# Altium schematic symbol library Schlib.SchLib: 74 symbols
Pins are listed as number, name and electrical type; pins without a type are passive.

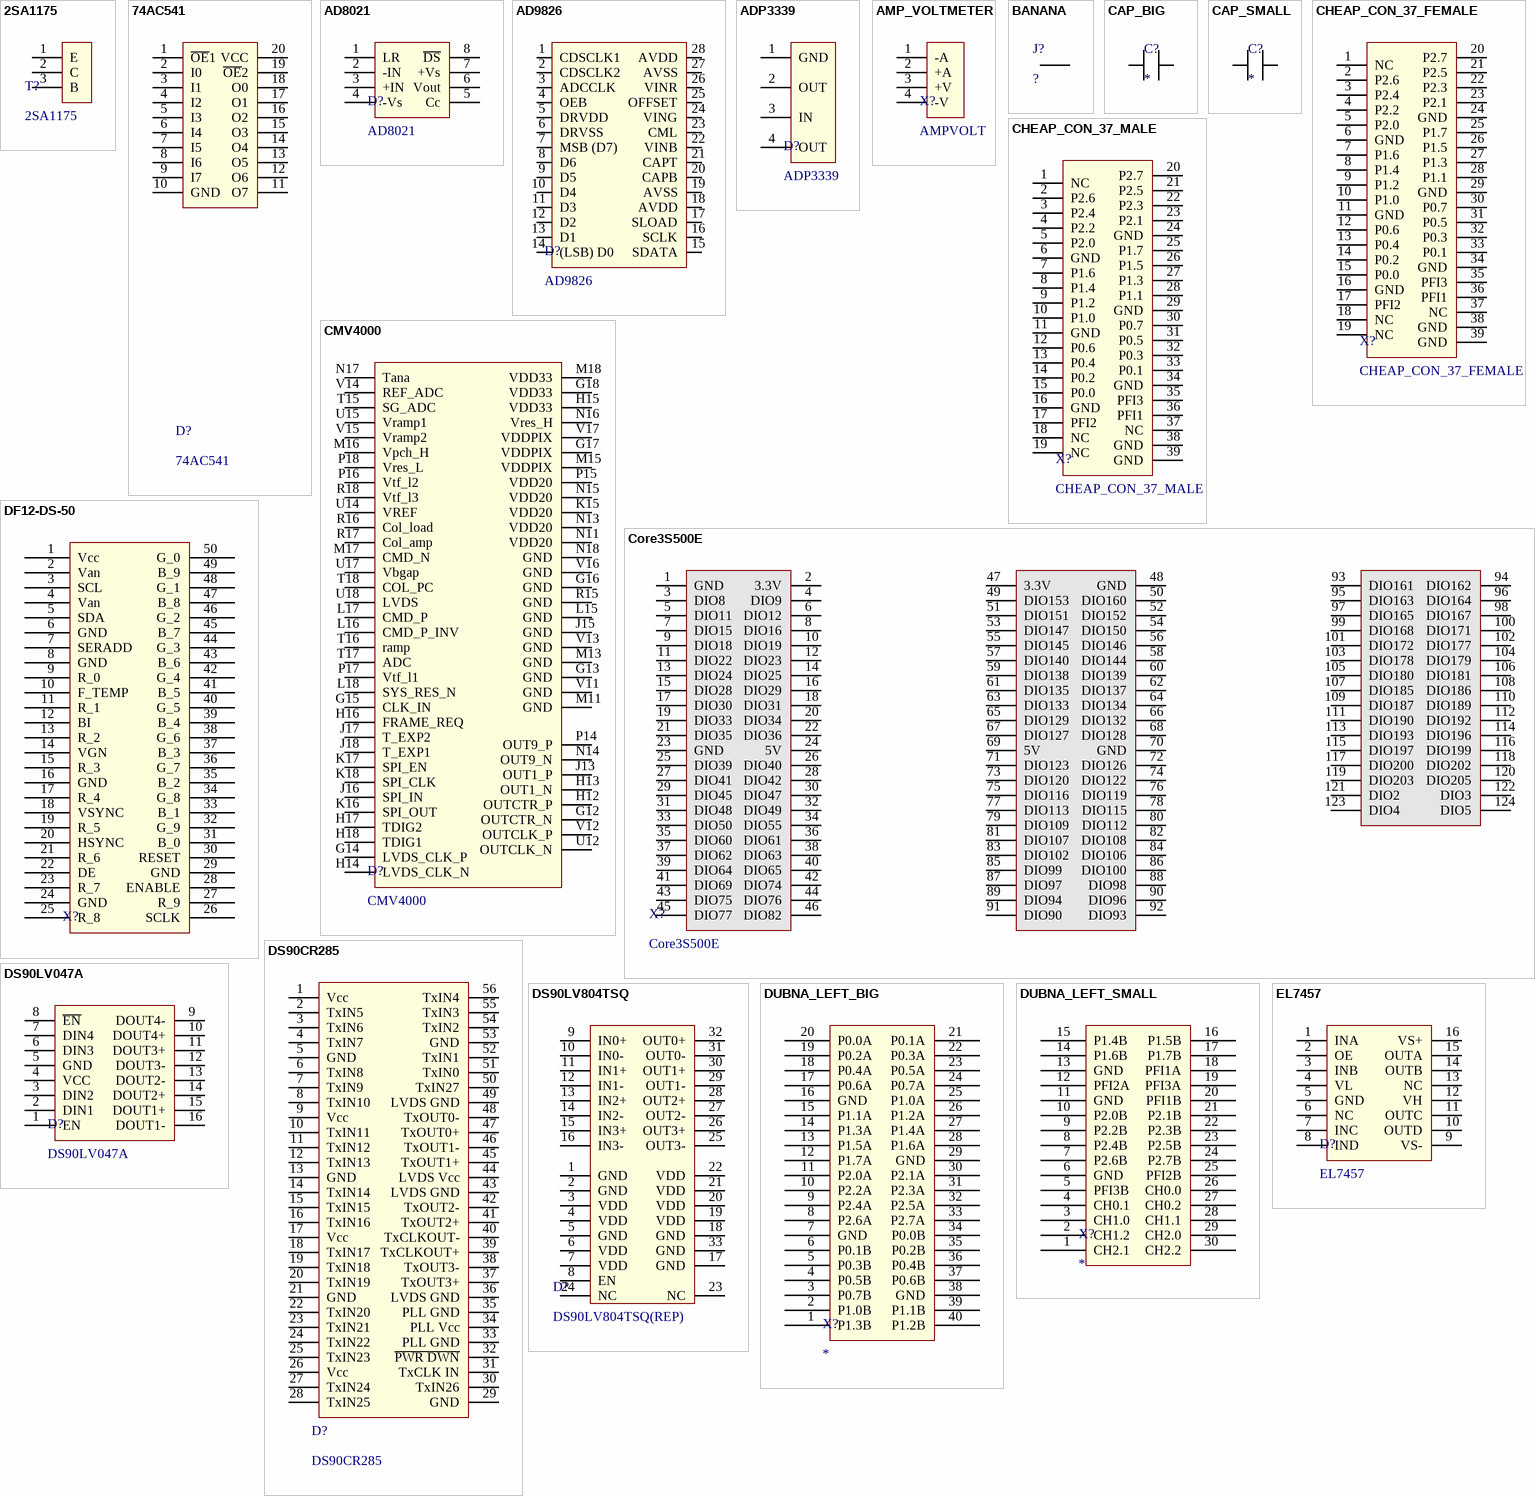
[diagram p0: symbols 2SA1175 to EL7457]

## 2SA1175
designator T?
footprint 2SA1175
pins: 1 E, 2 C, 3 B

## 74AC541
designator D?
footprint 20S_M (20-Pin Small Outline Integrated Circuit 1.27 mm Pitch, IPC Low Density)
pins: 1 ~{OE}1, 2 I0, 3 I1, 4 I2, 5 I3, 6 I4, 7 I5, 8 I6, 9 I7, 10 GND, 11 O7, 12 O6, 13 O5, 14 O4, 15 O3, 16 O2, 17 O1, 18 O0, 19 ~{OE}2, 20 VCC

## AD8021
designator D?
footprint AD8021
pins: 1 LR, 2 -IN, 3 +IN, 4 -Vs, 5 Cc, 6 Vout, 7 +Vs, 8 ~{DS}

## AD9826
designator D?
footprint SSOP-28
pins: 1 CDSCLK1, 2 CDSCLK2, 3 ADCCLK, 4 OEB, 5 DRVDD, 6 DRVSS, 7 MSB (D7), 8 D6, 9 D5, 10 D4, 11 D3, 12 D2, 13 D1, 14 (LSB) D0, 15 SDATA, 16 SCLK, 17 SLOAD, 18 AVDD, 19 AVSS, 20 CAPB, 21 CAPT, 22 VINB, 23 CML, 24 VING, 25 OFFSET, 26 VINR, 27 AVSS, 28 AVDD

## ADP3339
designator D?
footprint SOT230P700X180-4N
pins: 1 GND, 2 OUT, 3 IN, 4 OUT

## AMP_VOLTMETER
designator X?, comment AMPVOLT
footprint AMP_VOLTMETER
pins: 1 -A, 2 +A, 3 +V, 4 -V

## BANANA
designator J?, comment ?
footprint BANANA
pins: 1 BANAN

## CAP_BIG
designator C?
footprint Cap_BIG (FROM_MAX)
pins: 1, 2

## CAP_SMALL
designator C?
footprint CAP_SMALL (FROM_MAX)
pins: 1, 2

## CHEAP_CON_37_FEMALE
designator X?
footprint CHEAP_CONN_FEMALE
pins: 1 NC, 2 P2.6, 3 P2.4, 4 P2.2, 5 P2.0, 6 GND, 7 P1.6, 8 P1.4, 9 P1.2, 10 P1.0, 11 GND, 12 P0.6, 13 P0.4, 14 P0.2, 15 P0.0, 16 GND, 17 PFI2, 18 NC, 19 NC, 20 P2.7, 21 P2.5, 22 P2.3, 23 P2.1, 24 GND, 25 P1.7, 26 P1.5, 27 P1.3, 28 P1.1, 29 GND, 30 P0.7, 31 P0.5, 32 P0.3, 33 P0.1, 34 GND, 35 PFI3, 36 PFI1, 37 NC, 38 GND, 39 GND

## CHEAP_CON_37_MALE
designator X?
footprint CHEAP_CONN_MALE
pins: 1 NC, 2 P2.6, 3 P2.4, 4 P2.2, 5 P2.0, 6 GND, 7 P1.6, 8 P1.4, 9 P1.2, 10 P1.0, 11 GND, 12 P0.6, 13 P0.4, 14 P0.2, 15 P0.0, 16 GND, 17 PFI2, 18 NC, 19 NC, 20 P2.7, 21 P2.5, 22 P2.3, 23 P2.1, 24 GND, 25 P1.7, 26 P1.5, 27 P1.3, 28 P1.1, 29 GND, 30 P0.7, 31 P0.5, 32 P0.3, 33 P0.1, 34 GND, 35 PFI3, 36 PFI1, 37 NC, 38 GND, 39 GND

## CMV4000
designator D?
footprint SOCKET_AM2
pins: G12 OUTCTR_N, G13 GND, G14 LVDS_CLK_P, G15 CLK_IN, G16 GND, G17 VDDPIX, G18 VDD33, H12 OUTCTR_P, H13 OUT1_N, H14 LVDS_CLK_N, H15 VDD33, H16 FRAME_REQ, H17 TDIG2, H18 TDIG1, J13 OUT1_P, J15 GND, J16 SPI_IN, J17 T_EXP2, J18 T_EXP1, K15 VDD20, K16 SPI_OUT, K17 SPI_EN, K18 SPI_CLK, L15 GND, L16 CMD_P_INV, L17 CMD_P, L18 SYS_RES_N, M11 GND, M13 GND, M15 VDDPIX, M16 Vpch_H, M17 CMD_N, M18 VDD33, N11 VDD20, N13 VDD20, N14 OUT9_N, N15 VDD20, N16 Vres_H, N17 Tana, N18 GND, P14 OUT9_P, P15 VDD20, P16 Vtf_l2, P17 Vtf_l1, P18 Vres_L, R15 GND, R16 Col_load, R17 Col_amp, R18 Vtf_l3, T15 SG_ADC, T16 ramp, T17 ADC, T18 COL_PC, U12 OUTCLK_N, U14 VREF, U15 Vramp1, U17 Vbgap, U18 LVDS, V11 GND, V12 OUTCLK_P, V13 GND, V14 REF_ADC, V15 Vramp2, V16 GND, V17 VDDPIX

## Core3S500E
designator X?
footprint Core3S500E
pins: 1 GND, 2 3.3V, 3 DIO8, 4 DIO9, 5 DIO11, 6 DIO12, 7 DIO15, 8 DIO16, 9 DIO18, 10 DIO19, 11 DIO22, 12 DIO23, 13 DIO24, 14 DIO25, 15 DIO28, 16 DIO29, 17 DIO30, 18 DIO31, 19 DIO33, 20 DIO34, 21 DIO35, 22 DIO36, 23 GND, 24 5V, 25 DIO39, 26 DIO40, 27 DIO41, 28 DIO42, 29 DIO45, 30 DIO47, 31 DIO48, 32 DIO49, 33 DIO50, 34 DIO55, 35 DIO60, 36 DIO61, 37 DIO62, 38 DIO63, 39 DIO64, 40 DIO65, 41 DIO69, 42 DIO74, 43 DIO75, 44 DIO76, 45 DIO77, 46 DIO82, 47 3.3V, 48 GND, 49 DIO153, 50 DIO160, 51 DIO151, 52 DIO152, 53 DIO147, 54 DIO150, 55 DIO145, 56 DIO146, 57 DIO140, 58 DIO144, 59 DIO138, 60 DIO139, 61 DIO135, 62 DIO137, 63 DIO133, 64 DIO134, 65 DIO129, 66 DIO132, 67 DIO127, 68 DIO128, 69 5V, 70 GND, 71 DIO123, 72 DIO126, 73 DIO120, 74 DIO122, 75 DIO116, 76 DIO119, 77 DIO113, 78 DIO115, 79 DIO109, 80 DIO112, 81 DIO107, 82 DIO108, 83 DIO102, 84 DIO106, 85 DIO99, 86 DIO100, 87 DIO97, 88 DIO98, 89 DIO94, 90 DIO96, 91 DIO90, 92 DIO93, 93 DIO161, 94 DIO162, 95 DIO163, 96 DIO164, 97 DIO165, 98 DIO167, 99 DIO168, 100 DIO171, 101 DIO172, 102 DIO177, 103 DIO178, 104 DIO179, 105 DIO180, 106 DIO181, 107 DIO185, 108 DIO186, 109 DIO187, 110 DIO189, 111 DIO190, 112 DIO192, 113 DIO193, 114 DIO196, 115 DIO197, 116 DIO199, 117 DIO200, 118 DIO202, 119 DIO203, 120 DIO205, 121 DIO2, 122 DIO3, 123 DIO4, 124 DIO5

## DF12-DS-50
designator X?  (value not drawn)
footprint DF12-DS-50
pins: 1 Vcc, 2 Van, 3 SCL, 4 Van, 5 SDA, 6 GND, 7 SERADD, 8 GND, 9 R_0, 10 F_TEMP, 11 R_1, 12 BI, 13 R_2, 14 VGN, 15 R_3, 16 GND, 17 R_4, 18 VSYNC, 19 R_5, 20 HSYNC, 21 R_6, 22 DE, 23 R_7, 24 GND, 25 R_8, 26 SCLK, 27 R_9, 28 ENABLE, 29 GND, 30 RESET, 31 B_0, 32 G_9, 33 B_1, 34 G_8, 35 B_2, 36 G_7, 37 B_3, 38 G_6, 39 B_4, 40 G_5, 41 B_5, 42 G_4, 43 B_6, 44 G_3, 45 B_7, 46 G_2, 47 B_8, 48 G_1, 49 B_9, 50 G_0

## DS90CR285
designator D?
footprint TSSOP56
pins: 1 Vcc, 2 TxIN5, 3 TxIN6, 4 TxIN7, 5 GND, 6 TxIN8, 7 TxIN9, 8 TxIN10, 9 Vcc, 10 TxIN11, 11 TxIN12, 12 TxIN13, 13 GND, 14 TxIN14, 15 TxIN15, 16 TxIN16, 17 Vcc, 18 TxIN17, 19 TxIN18, 20 TxIN19, 21 GND, 22 TxIN20, 23 TxIN21, 24 TxIN22, 25 TxIN23, 26 Vcc, 27 TxIN24, 28 TxIN25, 29 GND, 30 TxIN26, 31 TxCLK IN, 32 ~{PWR DWN}, 33 PLL GND, 34 PLL Vcc, 35 PLL GND, 36 LVDS GND, 37 TxOUT3+, 38 TxOUT3-, 39 TxCLKOUT+, 40 TxCLKOUT-, 41 TxOUT2+, 42 TxOUT2-, 43 LVDS GND, 44 LVDS Vcc, 45 TxOUT1+, 46 TxOUT1-, 47 TxOUT0+, 48 TxOUT0-, 49 LVDS GND, 50 TxIN27, 51 TxIN0, 52 TxIN1, 53 GND, 54 TxIN2, 55 TxIN3, 56 TxIN4

## DS90LV047A
designator D?
footprint SOP65P640X110-16N
pins: 1 EN, 2 DIN1, 3 DIN2, 4 VCC, 5 GND, 6 DIN3, 7 DIN4, 8 ~{EN}, 9 DOUT4-, 10 DOUT4+, 11 DOUT3+, 12 DOUT3-, 13 DOUT2-, 14 DOUT2+, 15 DOUT1+, 16 DOUT1-

## DS90LV804TSQ
designator D?, comment DS90LV804TSQ(REP)
footprint DS90LV804TSQ
pins: 1 GND, 2 GND, 3 VDD, 4 VDD, 5 GND, 6 VDD, 7 VDD, 8 EN, 9 IN0+, 10 IN0-, 11 IN1+, 12 IN1-, 13 IN2+, 14 IN2-, 15 IN3+, 16 IN3-, 17 GND, 18 GND, 19 VDD, 20 VDD, 21 VDD, 22 VDD, 23 NC, 24 NC, 25 OUT3-, 26 OUT3+, 27 OUT2-, 28 OUT2+, 29 OUT1-, 30 OUT1+, 31 OUT0-, 32 OUT0+, 33 GND

## DUBNA_LEFT_BIG
designator X?
footprint DUBNA_LEFT_BIG
pins: 1 P1.3B, 2 P1.0B, 3 P0.7B, 4 P0.5B, 5 P0.3B, 6 P0.1B, 7 GND, 8 P2.6A, 9 P2.4A, 10 P2.2A, 11 P2.0A, 12 P1.7A, 13 P1.5A, 14 P1.3A, 15 P1.1A, 16 GND, 17 P0.6A, 18 P0.4A, 19 P0.2A, 20 P0.0A, 21 P0.1A, 22 P0.3A, 23 P0.5A, 24 P0.7A, 25 P1.0A, 26 P1.2A, 27 P1.4A, 28 P1.6A, 29 GND, 30 P2.1A, 31 P2.3A, 32 P2.5A, 33 P2.7A, 34 P0.0B, 35 P0.2B, 36 P0.4B, 37 P0.6B, 38 GND, 39 P1.1B, 40 P1.2B

## DUBNA_LEFT_SMALL
designator X?
footprint DUBNA_LEFT_SMALL
pins: 1 CH2.1, 2 CH1.2, 3 CH1.0, 4 CH0.1, 5 PFI3B, 6 GND, 7 P2.6B, 8 P2.4B, 9 P2.2B, 10 P2.0B, 11 GND, 12 PFI2A, 13 GND, 14 P1.6B, 15 P1.4B, 16 P1.5B, 17 P1.7B, 18 PFI1A, 19 PFI3A, 20 PFI1B, 21 P2.1B, 22 P2.3B, 23 P2.5B, 24 P2.7B, 25 PFI2B, 26 CH0.0, 27 CH0.2, 28 CH1.1, 29 CH2.0, 30 CH2.2

## EL7457
designator D?
footprint EL7457
pins: 1 INA, 2 OE, 3 INB, 4 VL, 5 GND, 6 NC, 7 INC, 8 IND, 9 VS-, 10 OUTD, 11 OUTC, 12 VH, 13 NC, 14 OUTB, 15 OUTA, 16 VS+

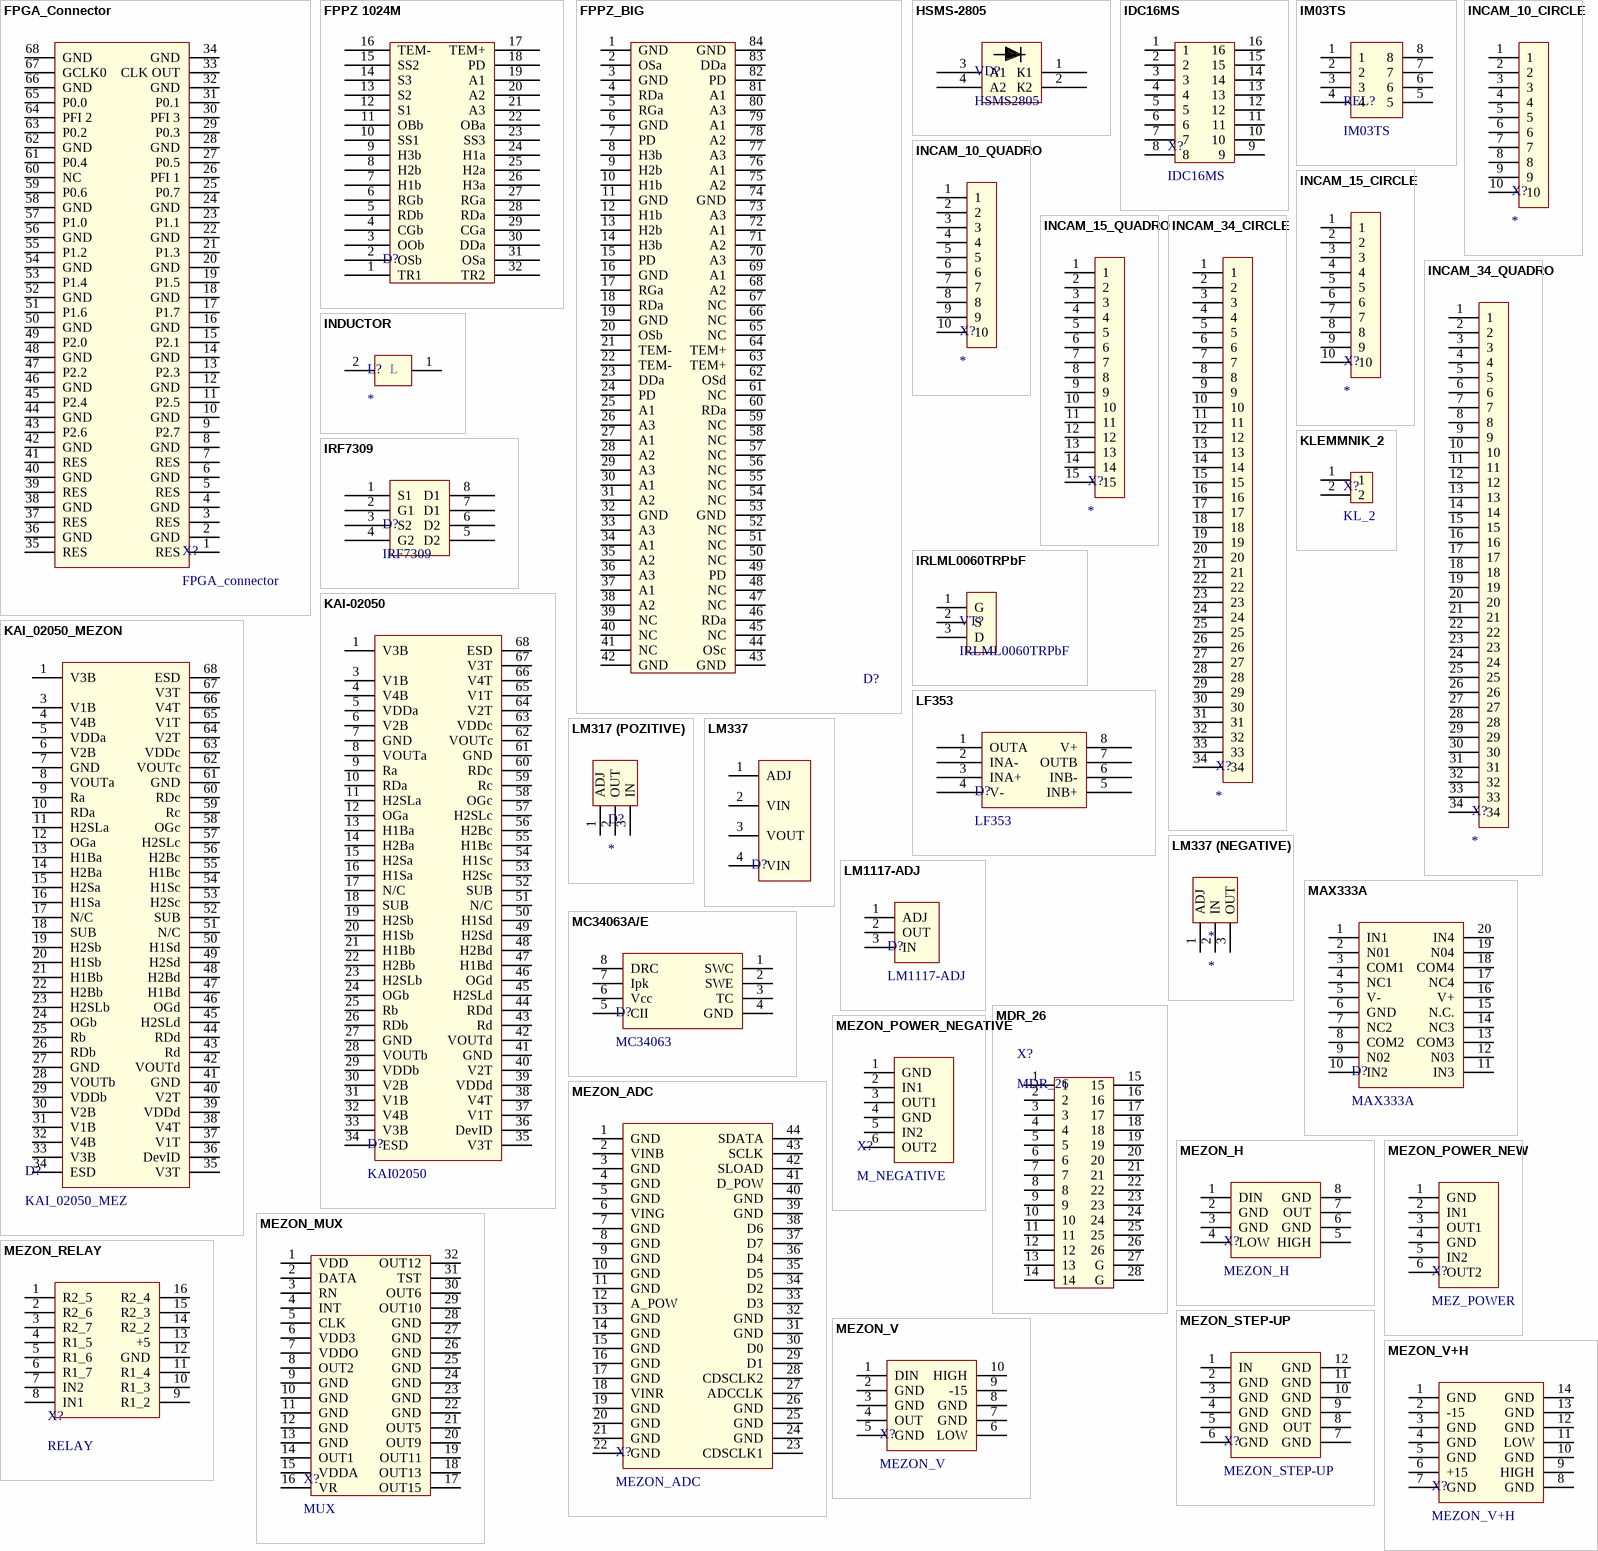
[diagram p1: symbols FPGA_Connector to MEZON_V+H]

## FPGA_Connector
designator X?, comment FPGA_connector
footprint FPGA (FPGA Connector)
pins: 1 RES, 2 GND, 3 RES, 4 GND, 5 RES, 6 GND, 7 RES, 8 GND, 9 P2.7, 10 GND, 11 P2.5, 12 GND, 13 P2.3, 14 GND, 15 P2.1, 16 GND, 17 P1.7, 18 GND, 19 P1.5, 20 GND, 21 P1.3, 22 GND, 23 P1.1, 24 GND, 25 P0.7, 26 PFI 1, 27 P0.5, 28 GND, 29 P0.3, 30 PFI 3, 31 P0.1, 32 GND, 33 CLK OUT, 34 GND, 35 RES, 36 GND, 37 RES, 38 GND, 39 RES, 40 GND, 41 RES, 42 GND, 43 P2.6, 44 GND, 45 P2.4, 46 GND, 47 P2.2, 48 GND, 49 P2.0, 50 GND, 51 P1.6, 52 GND, 53 P1.4, 54 GND, 55 P1.2, 56 GND, 57 P1.0, 58 GND, 59 P0.6, 60 NC, 61 P0.4, 62 GND, 63 P0.2, 64 PFI 2, 65 P0.0, 66 GND, 67 GCLK0, 68 GND

## FPPZ 1024M
designator D?  (value not drawn)
footprint FPPZ_1024M
pins: 1 TR1, 2 OSb, 3 OOb, 4 CGb, 5 RDb, 6 RGb, 7 H1b, 8 H2b, 9 H3b, 10 SS1, 11 OBb, 12 S1, 13 S2, 14 S3, 15 SS2, 16 TEM-, 17 TEM+, 18 PD, 19 A1, 20 A2, 21 A3, 22 OBa, 23 SS3, 24 H1a, 25 H2a, 26 H3a, 27 RGa, 28 RDa, 29 CGa, 30 DDa, 31 OSa, 32 TR2

## FPPZ_BIG
designator D?, comment FPPZ  (value not drawn)
footprint FPPZ_BIG
pins: 1 GND, 2 OSa, 3 GND, 4 RDa, 5 RGa, 6 GND, 7 PD, 8 H3b, 9 H2b, 10 H1b, 11 GND, 12 H1b, 13 H2b, 14 H3b, 15 PD, 16 GND, 17 RGa, 18 RDa, 19 GND, 20 OSb, 21 TEM-, 22 TEM-, 23 DDa, 24 PD, 25 A1, 26 A3, 27 A1, 28 A2, 29 A3, 30 A1, 31 A2, 32 GND, 33 A3, 34 A1, 35 A2, 36 A3, 37 A1, 38 A2, 39 NC, 40 NC, 41 NC, 42 GND, 43 GND, 44 OSc, 45 NC, 46 RDa, 47 NC, 48 NC, 49 PD, 50 NC, 51 NC, 52 NC, 53 GND, 54 NC, 55 NC, 56 NC, 57 NC, 58 NC, 59 NC, 60 RDa, 61 NC, 62 OSd, 63 TEM+, 64 TEM+, 65 NC, 66 NC, 67 NC, 68 A2, 69 A1, 70 A3, 71 A2, 72 A1, 73 A3, 74 GND, 75 A2, 76 A1, 77 A3, 78 A2, 79 A1, 80 A3, 81 A1, 82 PD, 83 DDa, 84 GND

## HSMS-2805
designator VD?, comment HSMS2805
footprint SOT-143B
pins: 1 К1, 2 К2, 3 А1, 4 А2

## IDC16MS
designator X?
footprint IDC16MS
pins: 1, 2, 3, 4, 5, 6, 7, 8, 9, 10, 11, 12, 13, 14, 15, 16

## IM03TS
designator REL?
footprint IM03TS
pins: 1, 2, 3, 4, 5, 6, 7, 8

## INCAM_10_CIRCLE
designator X?
footprint INCAM_CONNECTOR_FPGA_10_CIRCLE
pins: 1, 2, 3, 4, 5, 6, 7, 8, 9, 10

## INCAM_10_QUADRO
designator X?
footprint INCAM_CONNECTOR_FPGA_10_QUADRO
pins: 1, 2, 3, 4, 5, 6, 7, 8, 9, 10

## INCAM_15_CIRCLE
designator X?
footprint INCAM_CONNECTOR_FPGA_10_CIRCLE
pins: 1, 2, 3, 4, 5, 6, 7, 8, 9, 10

## INCAM_15_QUADRO
designator X?
footprint INCAM_CONNECTOR_FPGA_15_QUADRO
pins: 1, 2, 3, 4, 5, 6, 7, 8, 9, 10, 11, 12, 13, 14, 15

## INCAM_34_CIRCLE
designator X?
footprint INCAM_CONNECTOR_FPGA_34_CIRCLE
pins: 1, 2, 3, 4, 5, 6, 7, 8, 9, 10, 11, 12, 13, 14, 15, 16, 17, 18, 19, 20, 21, 22, 23, 24, 25, 26, 27, 28, 29, 30, 31, 32, 33, 34

## INCAM_34_QUADRO
designator X?
footprint INCAM_CONNECTOR_FPGA_34_QUADRO
pins: 1, 2, 3, 4, 5, 6, 7, 8, 9, 10, 11, 12, 13, 14, 15, 16, 17, 18, 19, 20, 21, 22, 23, 24, 25, 26, 27, 28, 29, 30, 31, 32, 33, 34

## INDUCTOR
designator L?
footprint 1812
pins: 1, 2
text: L

## IRF7309
designator D?
footprint SOIC127P600X175-8N
pins: 1 S1, 2 G1, 3 S2, 4 G2, 5 D2, 6 D2, 7 D1, 8 D1

## IRLML0060TRPbF
designator VT?
footprint SOT23-BEC_MMBT3640*(Primary)
pins: 1 G, 2 S, 3 D

## KAI-02050
designator D?, comment KAI02050
footprint KAI_02050
pins: 1 V3B, 3 V1B, 4 V4B, 5 VDDa, 6 V2B, 7 GND, 8 VOUTa, 9 Ra, 10 RDa, 11 H2SLa, 12 OGa, 13 H1Ba, 14 H2Ba, 15 H2Sa, 16 H1Sa, 17 N/C, 18 SUB, 19 H2Sb, 20 H1Sb, 21 H1Bb, 22 H2Bb, 23 H2SLb, 24 OGb, 25 Rb, 26 RDb, 27 GND, 28 VOUTb, 29 VDDb, 30 V2B, 31 V1B, 32 V4B, 33 V3B, 34 ESD, 35 V3T, 36 DevID, 37 V1T, 38 V4T, 39 VDDd, 40 V2T, 41 GND, 42 VOUTd, 43 Rd, 44 RDd, 45 H2SLd, 46 OGd, 47 H1Bd, 48 H2Bd, 49 H2Sd, 50 H1Sd, 51 N/C, 52 SUB, 53 H2Sc, 54 H1Sc, 55 H1Bc, 56 H2Bc, 57 H2SLc, 58 OGc, 59 Rc, 60 RDc, 61 GND, 62 VOUTc, 63 VDDc, 64 V2T, 65 V1T, 66 V4T, 67 V3T, 68 ESD

## KAI_02050_MEZON
designator D?, comment KAI_02050_MEZ
footprint KAI_02050_MEZONIN
pins: 1 V3B, 3 V1B, 4 V4B, 5 VDDa, 6 V2B, 7 GND, 8 VOUTa, 9 Ra, 10 RDa, 11 H2SLa, 12 OGa, 13 H1Ba, 14 H2Ba, 15 H2Sa, 16 H1Sa, 17 N/C, 18 SUB, 19 H2Sb, 20 H1Sb, 21 H1Bb, 22 H2Bb, 23 H2SLb, 24 OGb, 25 Rb, 26 RDb, 27 GND, 28 VOUTb, 29 VDDb, 30 V2B, 31 V1B, 32 V4B, 33 V3B, 34 ESD, 35 V3T, 36 DevID, 37 V1T, 38 V4T, 39 VDDd, 40 V2T, 41 GND, 42 VOUTd, 43 Rd, 44 RDd, 45 H2SLd, 46 OGd, 47 H1Bd, 48 H2Bd, 49 H2Sd, 50 H1Sd, 51 N/C, 52 SUB, 53 H2Sc, 54 H1Sc, 55 H1Bc, 56 H2Bc, 57 H2SLc, 58 OGc, 59 Rc, 60 RDc, 61 GND, 62 VOUTc, 63 VDDc, 64 V2T, 65 V1T, 66 V4T, 67 V3T, 68 ESD

## KLEMMNIK_2
designator X?, comment KL_2
footprint KLEMMNIK_2
pins: 1, 2

## LF353
designator D?
footprint SOIC127P600X175-8N
pins: 1 OUTA, 2 INA-, 3 INA+, 4 V-, 5 INB+, 6 INB-, 7 OUTB, 8 V+

## LM317 (POZITIVE)
designator D?
footprint TO-220
pins: 1 ADJ, 2 OUT, 3 IN

## LM337
designator D?  (value not drawn)
footprint SOT230P700X180-4N
pins: 1 ADJ, 2 VIN, 3 VOUT, 4 VIN

## LM337 (NEGATIVE)
designator *
footprint TO-220
pins: 1 ADJ, 2 IN, 3 OUT

## LM1117-ADJ
designator D?
footprint LM1117
pins: 1 ADJ, 2 OUT, 3 IN

## MAX333A
designator D?
footprint MAX333A
pins: 1 IN1, 2 N01, 3 COM1, 4 NC1, 5 V-, 6 GND, 7 NC2, 8 COM2, 9 N02, 10 IN2, 11 IN3, 12 N03, 13 COM3, 14 NC3, 15 N.C., 16 V+, 17 NC4, 18 COM4, 19 N04, 20 IN4

## MC34063A/E
designator D?, comment MC34063
footprint SOIC127P600X175-8N
pins: 1 SWC, 2 SWE, 3 TC, 4 GND, 5 CII, 6 Vcc, 7 Ipk, 8 DRC

## MDR_26
designator X?
footprint MDR26
pins: 1, 2, 3, 4, 5, 6, 7, 8, 9, 10, 11, 12, 13, 14, 15, 16, 17, 18, 19, 20, 21, 22, 23, 24, 25, 26, 27 G, 28 G

## MEZON_ADC
designator X?
footprint MEZON_ADC
pins: 1 GND, 2 VINB, 3 GND, 4 GND, 5 GND, 6 VING, 7 GND, 8 GND, 9 GND, 10 GND, 11 GND, 12 A_POW, 13 GND, 14 GND, 15 GND, 16 GND, 17 GND, 18 VINR, 19 GND, 20 GND, 21 GND, 22 GND, 23 CDSCLK1, 24 GND, 25 GND, 26 GND, 27 ADCCLK, 28 CDSCLK2, 29 D1, 30 D0, 31 GND, 32 GND, 33 D3, 34 D2, 35 D5, 36 D4, 37 D7, 38 D6, 39 GND, 40 GND, 41 D_POW, 42 SLOAD, 43 SCLK, 44 SDATA

## MEZON_H
designator X?
footprint MEZON_H
pins: 1 DIN, 2 GND, 3 GND, 4 LOW, 5 HIGH, 6 GND, 7 OUT, 8 GND

## MEZON_MUX
designator X?, comment MUX
footprint MEZON_MUX
pins: 1 VDD, 2 DATA, 3 RN, 4 INT, 5 CLK, 6 VDD3, 7 VDDO, 8 OUT2, 9 GND, 10 GND, 11 GND, 12 GND, 13 GND, 14 OUT1, 15 VDDA, 16 VR, 17 OUT15, 18 OUT13, 19 OUT11, 20 OUT9, 21 OUT5, 22 GND, 23 GND, 24 GND, 25 GND, 26 GND, 27 GND, 28 GND, 29 OUT10, 30 OUT6, 31 TST, 32 OUT12

## MEZON_POWER_NEGATIVE
designator X?, comment M_NEGATIVE
footprint MEZON_POWER_NEGATIVE
pins: 1 GND, 2 IN1, 3 OUT1, 4 GND, 5 IN2, 6 OUT2

## MEZON_POWER_NEW
designator X?, comment MEZ_POWER
footprint MEZON_POWER_NEW
pins: 1 GND, 2 IN1, 3 OUT1, 4 GND, 5 IN2, 6 OUT2

## MEZON_RELAY
designator X?, comment RELAY
footprint RELAY_MODULE
pins: 1 R2_5, 2 R2_6, 3 R2_7, 4 R1_5, 5 R1_6, 6 R1_7, 7 IN2, 8 IN1, 9 R1_2, 10 R1_3, 11 R1_4, 12 GND, 13 +5, 14 R2_2, 15 R2_3, 16 R2_4

## MEZON_STEP-UP
designator X?
footprint MEZON_STEP-UP
pins: 1 IN, 2 GND, 3 GND, 4 GND, 5 GND, 6 GND, 7 GND, 8 OUT, 9 GND, 10 GND, 11 GND, 12 GND

## MEZON_V
designator X?
footprint MEZON_V
pins: 1 DIN, 2 GND, 3 GND, 4 OUT, 5 GND, 6 LOW, 7 GND, 8 GND, 9 -15, 10 HIGH

## MEZON_V+H
designator X?
footprint MEZON_V+H
pins: 1 GND, 2 -15, 3 GND, 4 GND, 5 GND, 6 +15, 7 GND, 8 GND, 9 HIGH, 10 GND, 11 LOW, 12 GND, 13 GND, 14 GND

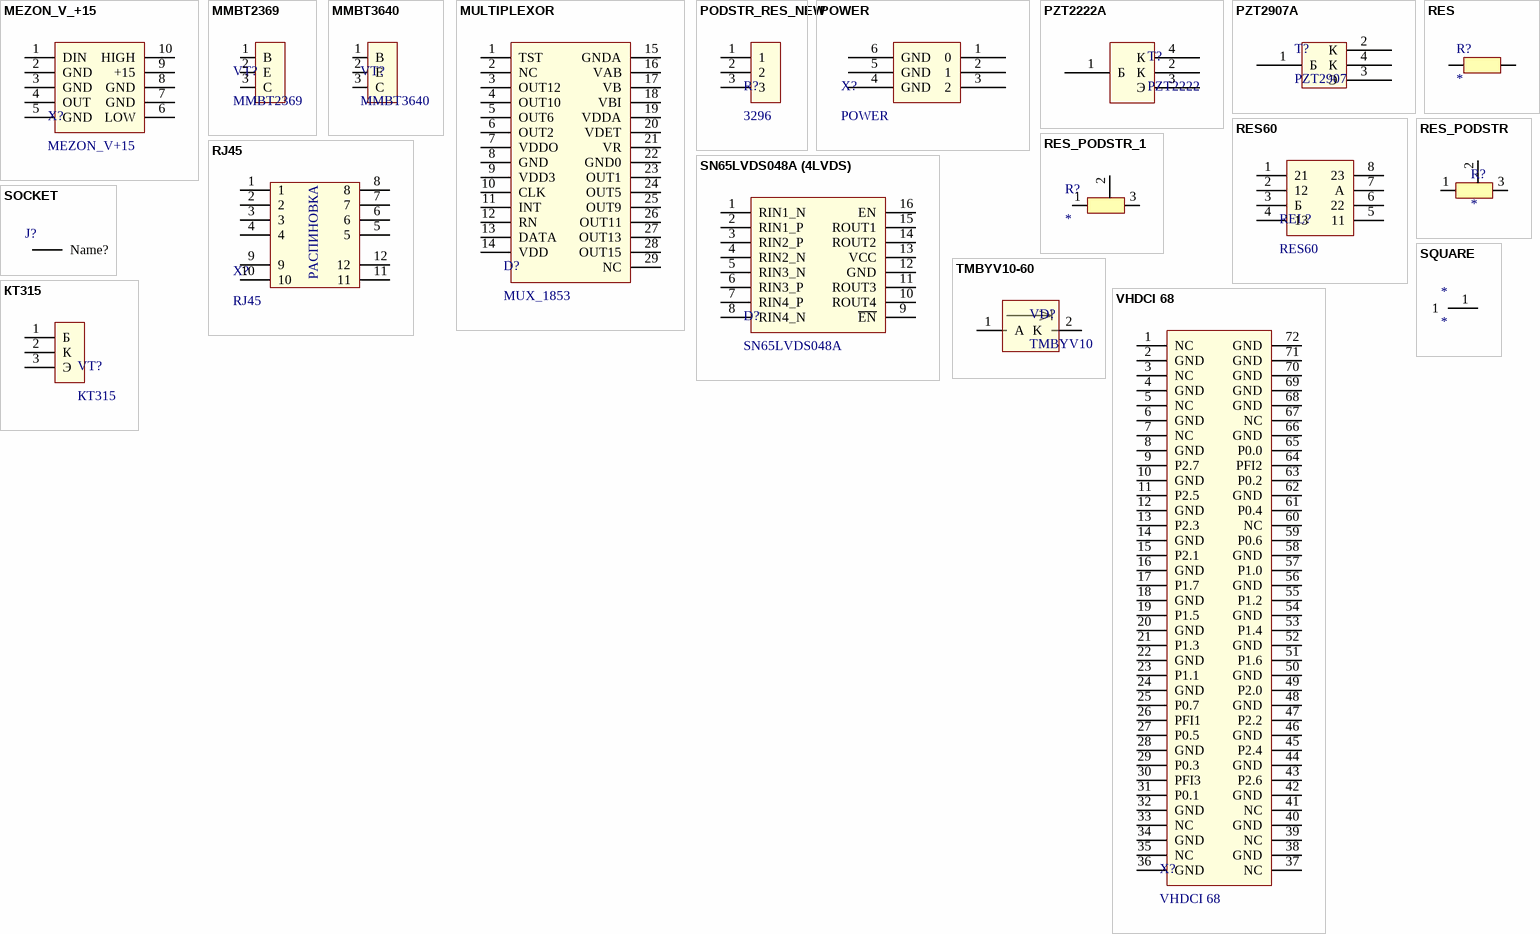
[diagram p2: symbols MEZON_V_+15 to КТ315]

## MEZON_V_+15
designator X?, comment MEZON_V+15
footprint MEZON_V
pins: 1 DIN, 2 GND, 3 GND, 4 OUT, 5 GND, 6 LOW, 7 GND, 8 GND, 9 +15, 10 HIGH

## MMBT2369
designator VT?
footprint SOT23-BEC_MMBT3640*(Primary)
pins: 1 B, 2 E, 3 C

## MMBT3640
designator VT?
footprint SOT23-BEC_MMBT3640*(Primary)
pins: 1 B, 2 E, 3 C

## MULTIPLEXOR
designator D?, comment MUX_1853
footprint MULTIPLEXOR
pins: 1 TST, 2 NC, 3 OUT12, 4 OUT10, 5 OUT6, 6 OUT2, 7 VDDO, 8 GND, 9 VDD3, 10 CLK, 11 INT, 12 RN, 13 DATA, 14 VDD, 15 GNDA, 16 VAB, 17 VB, 18 VBI, 19 VDDA, 20 VDET, 21 VR, 22 GND0, 23 OUT1, 24 OUT5, 25 OUT9, 26 OUT11, 27 OUT13, 28 OUT15, 29 NC

## PODSTR_RES_NEW
designator R?, comment 3296
footprint PODSTR_RES_3296
pins: 1, 2, 3

## POWER
designator X?
footprint POWER
pins: 1 0, 2 1, 3 2, 4 GND, 5 GND, 6 GND

## PZT2222A
designator T?, comment PZT2222
footprint SOT230P700X180-4N
pins: 1 Б, 2 К, 3 Э, 4 К

## PZT2907A
designator T?, comment PZT2907
footprint SOT230P700X180-4N
pins: 1 Б, 2 К, 3 Э, 4 К

## RES
designator R?
footprint RES (FROM_MAX)
pins: 1, 2

## RES60
designator REL?
footprint RES60
pins: 1 21, 2 12, 3 Б, 4 13, 5 11, 6 22, 7 A, 8 23

## RES_PODSTR
designator R?
footprint PODSR_RES
pins: 1, 2, 3

## RES_PODSTR_1
designator R?
footprint PODSTR_RES_1
pins: 1, 2, 3

## RJ45
designator X?
footprint RJ45
pins: 1, 2, 3, 4, 5, 6, 7, 8, 9, 10, 11, 12
text: РАСПИНОВКА

## SN65LVDS048A (4LVDS)
designator D?, comment SN65LVDS048A
footprint SN65LVDS048A (4LVDS)
pins: 1 RIN1_N, 2 RIN1_P, 3 RIN2_P, 4 RIN2_N, 5 RIN3_N, 6 RIN3_P, 7 RIN4_P, 8 RIN4_N, 9 ~{EN}, 10 ROUT4, 11 ROUT3, 12 GND, 13 VCC, 14 ROUT2, 15 ROUT1, 16 EN

## SOCKET
designator J?, comment Name?  (value not drawn)
footprint SOCKET
pins: 1 Name?

## SQUARE
designator *
footprint SQUARE
footprint SQUARE
pins: 1

## TMBYV10-60
designator VD?, comment TMBYV10
footprint TMBYV10-60
pins: 1 A, 2 K

## VHDCI 68
designator X?
footprint VHDCI 68
pins: 1 NC, 2 GND, 3 NC, 4 GND, 5 NC, 6 GND, 7 NC, 8 GND, 9 P2.7, 10 GND, 11 P2.5, 12 GND, 13 P2.3, 14 GND, 15 P2.1, 16 GND, 17 P1.7, 18 GND, 19 P1.5, 20 GND, 21 P1.3, 22 GND, 23 P1.1, 24 GND, 25 P0.7, 26 PFI1, 27 P0.5, 28 GND, 29 P0.3, 30 PFI3, 31 P0.1, 32 GND, 33 NC, 34 GND, 35 NC, 36 GND, 37 NC, 38 GND, 39 NC, 40 GND, 41 NC, 42 GND, 43 P2.6, 44 GND, 45 P2.4, 46 GND, 47 P2.2, 48 GND, 49 P2.0, 50 GND, 51 P1.6, 52 GND, 53 P1.4, 54 GND, 55 P1.2, 56 GND, 57 P1.0, 58 GND, 59 P0.6, 60 NC, 61 P0.4, 62 GND, 63 P0.2, 64 PFI2, 65 P0.0, 66 GND, 67 NC, 68 GND, 69 GND, 70 GND, 71 GND, 72 GND

## КТ315
designator VT?
footprint KT315
pins: 1 Б, 2 К, 3 Э